# EAGLE library part SIM-ST-MFF2 (library SIM-ST-MFF2)
GLOBAL IOT EMBEDDED SIM CHIP
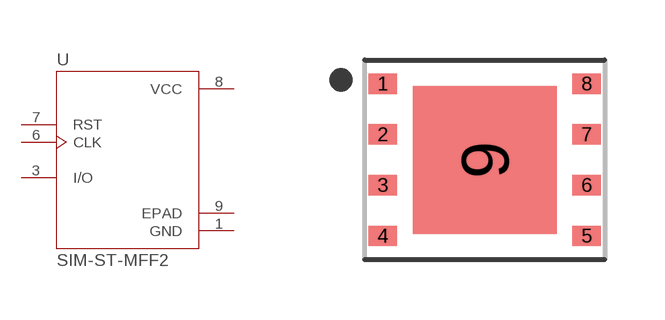
[diagram p0: symbol with the pads of PSON127P500X600X82-9N; footprint PSON127P500X600X82-9N]

Designator prefix U

## SIM-ST-MFF2 (Availability: Unavailable; Description: GLOBAL IOT EMBEDDED SIM CHIP; MF: Hologram, Inc.; MP: SIM-ST-MFF2; Package: None; Price: None)  [PSON127P500X600X82-9N]
1  GND  pwr
3  I/O
6  CLK  in
7  RST  in
8  VCC  pwr
9  EPAD  pas

## Footprint PSON127P500X600X82-9N (pad centres in mm)
smd 0.71 x 0.51: 1 -2.55,1.905; 2 -2.55,0.635; 3 -2.55,-0.635; 4 -2.55,-1.905; 5 2.55,-1.905; 6 2.55,-0.635; 7 2.55,0.635; 8 2.55,1.905
smd 3.6 x 3.7: 9 0,0